# EAGLE library part 6620XX11122_66200611122 (library WR-MPC3)
WR-MPC3 Single Row Male Vertical Header KIND PROPERTIES Pitch 3 mm Gender Male MATERIAL PROPERTIES Insulator Material LCP Insulator Flammability Rating UL94 V-0 Insulator Color Black Contact Material Copper Alloy Contact Plating Tin Contact Type Stamped GENERAL INFORMATION Operating Temperature -40 up to +105 °C Compliance:RoHS Working Voltage 250 V (AC) Withstanding Voltage 1500 V (AC) Contact Resistance 10 mΩ RISO 1000 MΩ CERTIFICATION UL Approval E323964 WIRE PROPERTIES Packaging Tube <https://katalog.we-online.de/media/images/v2/o33166v209%20Family_WR-MPC3_6620xx11122.jpg> Details see: https://katalog.we-online.de/en/em/MPC3_3_00_MALE_SINGLE_ROW_VERTICAL_HEADER_6620XX11122 Created by Yingchun,Shan 2019-11-15 2019 (C) Würth Elektronik
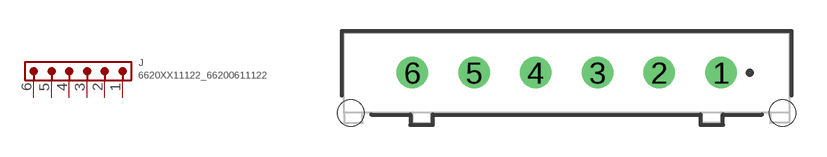
[diagram p72: symbol with the pads of 66200611122; footprint 66200611122]

Designator prefix J

## 6620XX11122_66200611122 (CONTACT-RESISTANCE: 10Ohm; DATASHEET-URL: https://www.we-online.com/redexpert/spec/66200611122?ae; GENDER: Male; IR: 5A; MOUNT: THT; PART-NUMBER: 66200611122; PINS: 6; PITCH: 3mm; ROWS: Single; TOL-R: max.; TYPE: Vertical; VALUE: 66200611122; WORKING-VOLTAGE: 250V(AC))  [66200611122]
1  1  pas
2  2  pas
3  3  pas
4  4  pas
5  5  pas
6  6  pas

## Footprint 66200611122 (pad centres in mm)
WR-MPC3 3.00mm Male Single Row Vertical Header, 6 Pins
drill 1.02: 1 7.5,0; 2 4.5,0; 3 1.5,0; 4 -1.5,0; 5 -4.5,0; 6 -7.5,0
hole 1.27 at 10.5,-1.96
hole 1.27 at -10.5,-1.96